# Altium schematic symbol library Yellow_Led_Button.SchLib: 1 symbol
Pins are listed as number, name and electrical type; pins without a type are passive.

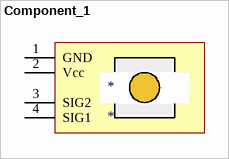
[diagram p0: symbol Component_1]

## Component_1
designator *
pins: 1 GND, 2 Vcc, 3 SIG2, 4 SIG1